# Altium schematic symbol library S34ML04G2 NAND.SchLib: 1 symbol
Pins are listed as number, name and electrical type; pins without a type are passive.

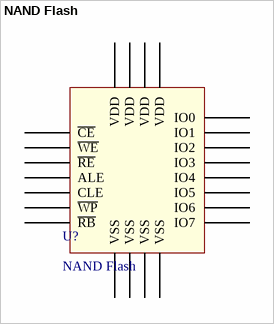
[diagram p0: symbol NAND Flash]

## NAND Flash
designator U?
4GB NAND Flash Memory; Manufacturer Part No.: S34ML04G200TFI000; Digi-Key Part No.: 1274-1044-ND; ComponentLink1Description: Datasheet; ComponentLink1URL: http://www.cypress.com/file/218306/download
footprint S34ML04G2 (4GB NAND Flash Memory)
pins: 7 ~{RB}, 8 ~{RE}, 9 ~{CE}, 12 VDD, 13 VSS, 16 CLE, 17 ALE, 18 ~{WE}, 19 ~{WP}, 25 VSS, 29 IO0, 30 IO1, 31 IO2, 32 IO3, 34 VDD, 36 VSS, 37 VDD, 39 VDD, 41 IO4, 42 IO5, 43 IO6, 44 IO7, 48 VSS